# Altium schematic symbol library USB_B.Schlib: 1 symbol
Pins are listed as number, name and electrical type; pins without a type are passive.

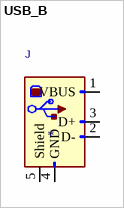
[diagram p0: symbol USB_B]

## USB_B
designator J
pins: 1 VBUS, 2 D-, 3 D+, 4 GND, 5 Shield